# EAGLE library part 104031-0811 (library BluePillF4)
1.10mm Pitch microSD Memory Card Connector, Surface Mount, Push-Pull Type, 1.42mm Height, with Detect Switch
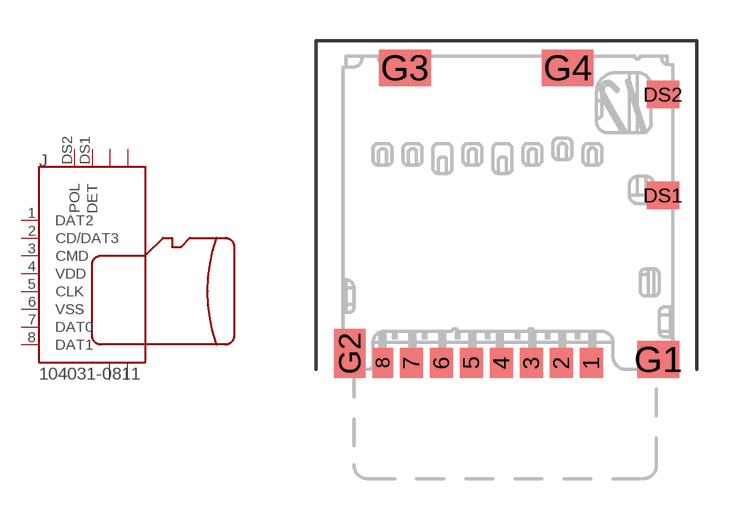
[diagram p5: symbol with the pads of 104031-0811; footprint 104031-0811]

Designator prefix J

## 104031-0811  [104031-0811]
1  DAT2
2  CD/DAT3
3  CMD  in
4  VDD  pwr
5  CLK  in
6  VSS  pwr
7  DAT0
8  DAT1
DS1  DET  pas
DS2  POL  pas
G1  GND  pwr
G2  GND  pwr
G3  GND  pwr
G4  GND  pwr

## Footprint 104031-0811 (pad centres in mm)
1.10mm Pitch microSD Memory Card Connector, Surface Mount, Push-Pull Type, 1.42mm Height, with Detect Switch
smd 0.85 x 1.1: 1 3.105,0.25; 2 2.005,0.25; 3 0.905,0.25; 4 -0.195,0.25; 5 -1.295,0.25; 6 -2.395,0.25; 7 -3.495,0.25
smd 0.75 x 1.1: 8 -4.545,0.25
smd 1.2 x 1: DS1 5.74,6.4; DS2 5.74,10.1
smd 1.55 x 1.35: G1 5.565,0.375
smd 1.17 x 1.8: G2 -5.755,0.6
smd 1.9 x 1.35: G3 -3.73,11.075; G4 2.24,11.075